# Altium schematic symbol library EMI_single_phase.SchLib: 2 symbols
Pins are listed as number, name and electrical type; pins without a type are passive.

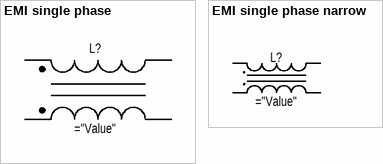
[diagram p0: symbols EMI single phase to EMI single phase narrow]

## EMI single phase
designator L?
Manufacturer: Epcos; PartNumber: B64290L0022X037; TypeInductor: Fixed inductor; TypeMatiriel: T37; AL: 700 нГн/витков2; Package: R41.8/26.2/12.5; HelpURL: http://ferrite.ru/warehouse/r-41.8-x-26.2-x-12.5-serdechnik-b64290l0022x037.html; ValueManufacturerPartNumber: =TypeInductor+', '+Value+', '+Tolerance+', '+Package+', '+TypeMatiriel+', '+AL; Value: ="Value"
pins: 1, 2, 3, 4

## EMI single phase narrow
designator L?
Value: ="Value"
pins: 1, 2, 3, 4